# Altium schematic symbol library 3296W-1-102.SchLib: 1 symbol
Pins are listed as number, name and electrical type; pins without a type are passive.

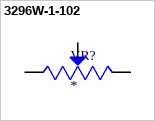
[diagram p0: symbol 3296W-1-102]

## 3296W-1-102
designator VR?
TRIMMER - 3/8in SQ MT CERMET | Bourns 3296W-1-102; SnapEDA_Link: https://www.snapeda.com/parts/3296W-1-102/Bourns/view-part/?ref=snap; Package: NON STANDARD-3 Bourns; Value: *; MF: Bourns; MP: 3296W-1-102; Check_prices: https://www.snapeda.com/parts/3296W-1-102/Bourns/view-part/?ref=eda
footprint TRIM_3296W-1-102
pins: 1 CCW, 2 WIPER, 3 CW